# EAGLE library part LM75BD (library saha-aux)
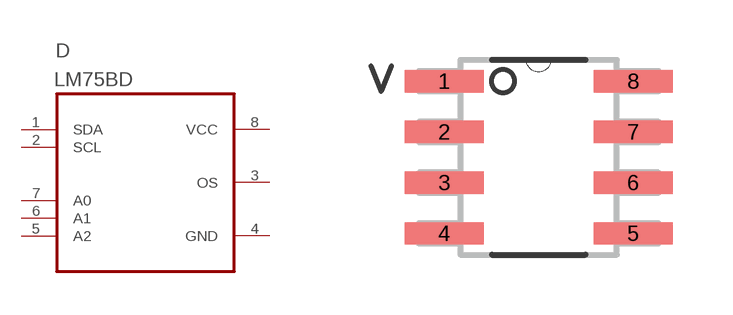
[diagram p3: symbol with the pads of SOIC8-N; footprint SOIC8-N]

Designator prefix D

## LM75BD  [SOIC8-N]
1  SDA  pwr
2  SCL
3  OS
4  GND  in
5  A2
6  A1
7  A0
8  VCC

## Footprint SOIC8-N (pad centres in mm)
smd 1.981 x 0.559: 1 -2.362,1.905; 2 -2.362,0.635; 3 -2.362,-0.635; 4 -2.362,-1.905; 5 2.362,-1.905; 6 2.362,-0.635; 7 2.362,0.635; 8 2.362,1.905